# EAGLE library part ATTINY85-20PU (library ATTINY85-20PU)
ATtiny Series 20 MHz 8 KB Flash 512 B SRAM 8-Bit Microcontroller - DIP-8 Check prices <https://pricing.snapeda.com/parts/ATTINY85-20PU/Microchip%20Technology/view-part?ref=eda>
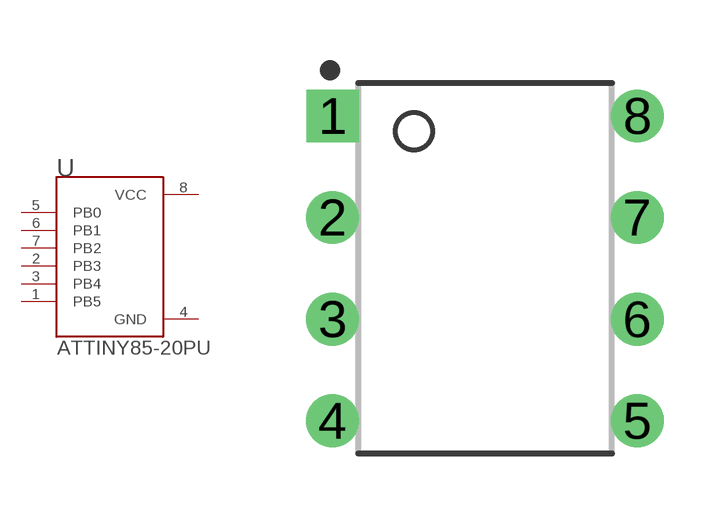
[diagram p0: symbol with the pads of DIP762W46P254L927H533Q8B; footprint DIP762W46P254L927H533Q8B]

Designator prefix U

## ATTINY85-20PU (Availability: Warning; Description: AVR AVR® ATtiny, Functional Safety (FuSa) Microcontroller IC 8-Bit 20MHz 8KB (4K x 16) FLASH 8-PDIP; MF: Microchip Technology; MP: ATTINY85-20PU; Package: DIP-8 Atmel; Price: None; Purchase-URL: https://pricing.snapeda.com/search/part/ATTINY85-20PU/?ref=eda)  [DIP762W46P254L927H533Q8B]
1  PB5
2  PB3
3  PB4
4  GND  pwr
5  PB0
6  PB1
7  PB2
8  VCC  pwr

## Footprint DIP762W46P254L927H533Q8B (pad centres in mm)
drill 0.813 square: 1 -3.81,3.81
drill 0.813: 2 -3.81,1.27; 3 -3.81,-1.27; 4 -3.81,-3.81; 5 3.81,-3.81; 6 3.81,-1.27; 7 3.81,1.27; 8 3.81,3.81